# Altium integrated library TEST-7CN.IntLib: 1 symbol
Pins are listed as number, name and electrical type; pins without a type are passive.

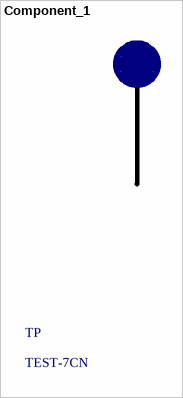
[diagram p0: symbol Component_1]

## Component_1
designator TP, comment TEST-7CN
Buying URL:: https://www.toby.co.uk/pcb-hardware/test-points-and-pins/test-7cn-valcon-ceramic-body-loop-pcb-test-points/
footprint PCBComponent_1
footprint PCBComponent_1
pins: 1